# Altium footprint library sot_723_3_p40_120x120x55.PcbLib: 1 footprints
Each footprint in its own frame and in the unit in brackets; x right, y up, seen from the top. Pads: shape width x height; smd on the part's side, far side on the other; paste and mask are expansions set on the pad; w line width, h text height; cw(c..) or ccw(c..) is an arc to the next point about the centre after c.
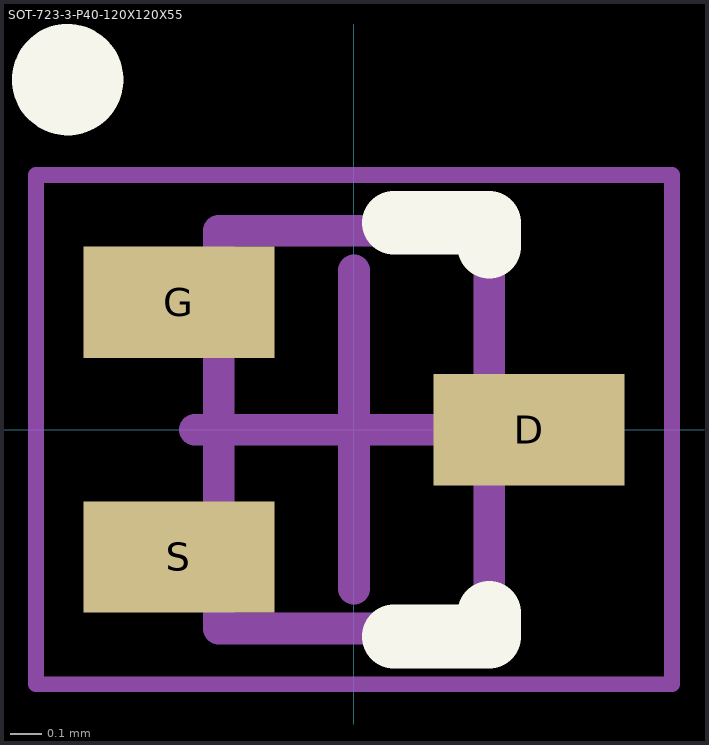
[diagram p0: the footprint, top view; thin cyan lines are the x and y axes]

## SOT-723-3-P40-120X120X55 [mm] "SOTFL, 3-Leads, Body 1,20x1,20mm, Pitch 0,40mm, IPC Medium Density"
height 0.55
pads (3):
  rect 0.6x0.35 smd: D(0.55,0) G(-0.55,0.4) S(-0.55,-0.4)
Top Overlay:
  circle w0.25: c-0.9,1.1 r0.05
  lines w0.2: 0.125,-0.65 0.425,-0.65 0.425,-0.575 ; 0.125,0.65 0.425,0.65 0.425,0.575
Top Comment:
  text ".Comment" at 1,2 h1.2
Top Designator:
  text ".Designator" at -0.5,2 h1.2
Top Component Outline:
  lines w0.1: -0.425,-0.625 -0.425,0.625 0.425,0.625 0.425,-0.625 -0.425,-0.625
Top Courtyard (Mech15):
  lines w0.05: -1,-0.8 -1,0.8 1,0.8 1,-0.8 -1,-0.8
  lines w0.1: -0.5,0 0.5,0 ; 0,-0.5 0,0.5
3D body "User Library-SOT-723-3.step": height 0.45, standoff 0, extent -0.6,-0.625 0.6,0.625